# Altium schematic symbol library Breakout.SchLib: 9 symbols
Pins are listed as number, name and electrical type; pins without a type are passive.

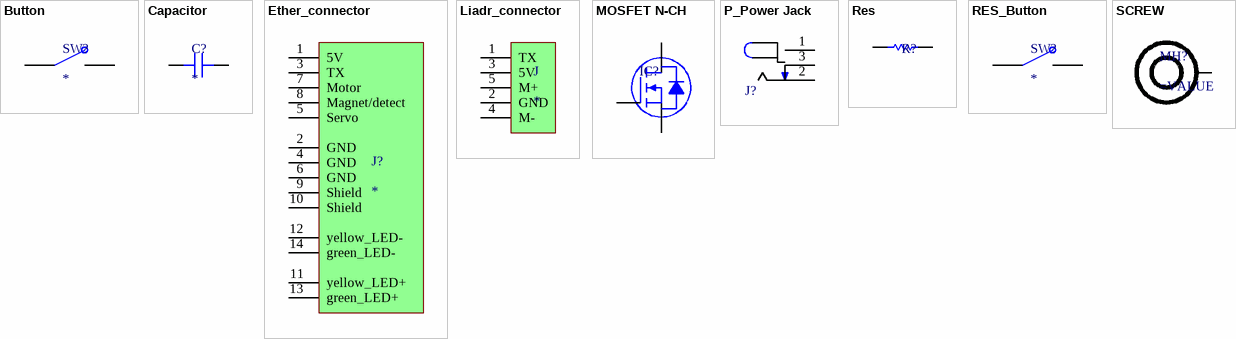
[diagram p0: symbols Button to SCREW]

## Button
designator SW?
pins: 1, 2

## Capacitor
designator C?
SMT Capacitor; Value: *
pins: 1, 2

## Ether_connector
designator J?
pins: 1 5V, 2 GND, 3 TX, 4 GND, 5 Servo, 6 GND, 7 Motor, 8 Magnet/detect, 9 Shield, 10 Shield, 11 yellow_LED+, 12 yellow_LED-, 13 green_LED+, 14 green_LED-

## Liadr_connector
designator J
pins: 1 TX, 2 GND, 3 5V, 4 M-, 5 M+

## MOSFET N-CH
designator IC?
footprint SOT-23
pins: 1 G, 2 S, 3 D

## P_Power Jack
designator J?, comment Power Jack  (value not drawn)
Power Barrel Connector Jack 2.10mm ID (0.083"), 5.50mm OD (0.217") Through Hole, Right Angle; MFR Part #: PJ-102A; Value: CONN PWR JACK 2X5.5MM SOLDER; Digikey Link: https://www.digikey.com/product-detail/en/PJ-102A/CP-102A-ND/275425/?itemSeq=304982367; LCSC Part#: C136744; Type: Extended
pins: 1 (power), 2 (power), 3 (power)

## Res
designator R?
Resistor; Ordered by: Subcon; Published: 8-Jun-2000; Revision: July-2002: Re-released for DXP Platform.; Publisher: Altium Limited
pins: 1, 2
2 alternate drawings of the same symbol

## RES_Button
designator SW?
footprint PTS636SL43LFS
footprint PTS636SM50JSMTRLFS
pins: 1, 2

## SCREW
designator MH?
pins: 1